# EAGLE library part 74LCX11MTCX (library Fairchild_By_element14_Batch_1)
Low Voltage Triple 3-Input AND Gate with 5V Tolerant Inputs
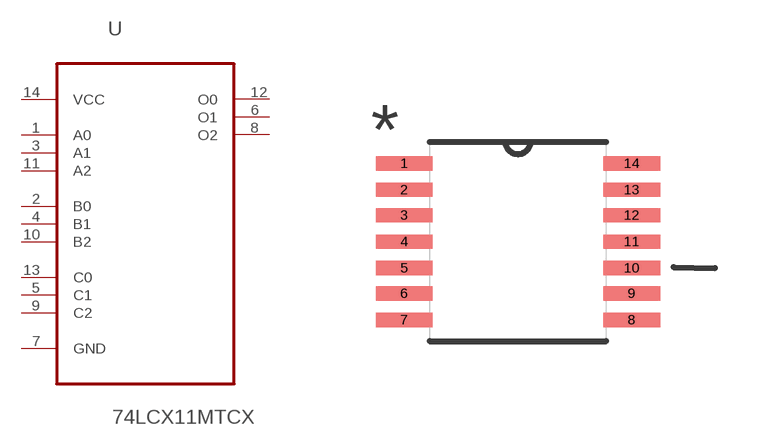
[diagram p75: symbol with the pads of SOP65P640X120-14N; footprint SOP65P640X120-14N]

Designator prefix U

## 74LCX11MTCX (MPN: 74LCX11MTCX; OC_FARNELL: 1704787; OC_NEWARK: 46P9671; PACKAGE: TSSOP-14; SUPPLIER: FAIRCHILD)  [SOP65P640X120-14N]
1  A0  in
2  B0  in
3  A1  in
4  B1  in
5  C1  in
6  O1  out
7  GND  pas
8  O2  out
9  C2  in
10  B2  in
11  A2  in
12  O0  out
13  C0  in
14  VCC  pwr

## Footprint SOP65P640X120-14N (pad centres in mm)
smd 1.422 x 0.356: 1 -2.845,1.956; 2 -2.845,1.295; 3 -2.845,0.66; 4 -2.845,0; 5 -2.845,-0.66; 6 -2.845,-1.295; 7 -2.845,-1.956; 8 2.845,-1.956; 9 2.845,-1.295; 10 2.845,-0.66; 11 2.845,0; 12 2.845,0.66; 13 2.845,1.295; 14 2.845,1.956